# Altium footprint library V-Reg.PcbLib: 2 footprints
Each footprint in its own frame and in the unit in brackets; x right, y up, seen from the top. Pads: shape width x height; smd on the part's side, far side on the other; paste and mask are expansions set on the pad; w line width, h text height; cw(c..) or ccw(c..) is an arc to the next point about the centre after c.
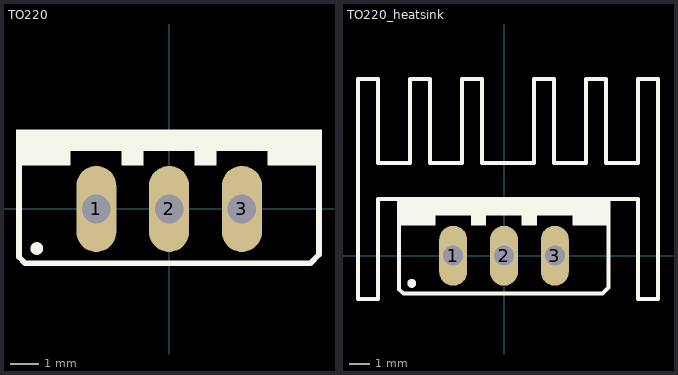
[diagram p0: the footprints below, top view; thin cyan lines are the x and y axes]

## TO220 [mm] "FM, 3-Leads, Body 10.2x4.7mm, Pitch 2.54mm"
height 18.95
pads (3):
  oval 1.4x3 hole 1: 1(-2.54,0) 2(0,0) 3(2.54,0)
Top Overlay:
  circle w0.254: c-4.617,-1.381 r0.094
  region: -3.433,1.508 -3.433,2.778 -5.338,2.778 -5.338,1.508
  region: -1.655,2.016 -1.655,2.778 -3.433,2.778 -3.433,2.016
  region: -0.893,2.778 -1.655,2.778 -1.655,1.508 -0.893,1.508
  region: 0.885,2.016 0.885,2.778 -0.893,2.778 -0.893,2.016
  region: 1.647,2.778 0.885,2.778 0.885,1.508 1.647,1.508
  region: 3.425,2.016 3.425,2.778 1.647,2.778 1.647,2.016
  region: 5.33,1.508 5.33,2.778 3.425,2.778 3.425,1.508
  lines w0.2: -5.238,2.642 -5.238,-1.681 -5.024,-1.895 -4.192,-1.895 ; -4.331,-1.895 3.97,-1.895 4.928,-1.895 5.23,-1.593 5.23,2.57
3D body "TO220.stp": height 19.89, standoff -10.36, extent -5.26,-1.5 5.26,3.17

## TO220_heatsink [mm] "FM, 3-Leads, Body 10.2x4.7mm, Pitch 2.54mm"
height 18.95
pads (3):
  oval 1.4x3 hole 1: 1(-2.54,0) 2(0,0) 3(2.54,0)
Top Overlay:
  circle w0.254: c-4.617,-1.381 r0.094
  region: -3.433,1.508 -3.433,2.778 -5.338,2.778 -5.338,1.508
  region: -1.655,2.016 -1.655,2.778 -3.433,2.778 -3.433,2.016
  region: -0.893,2.778 -1.655,2.778 -1.655,1.508 -0.893,1.508
  region: 0.885,2.016 0.885,2.778 -0.893,2.778 -0.893,2.016
  region: 1.647,2.778 0.885,2.778 0.885,1.508 1.647,1.508
  region: 3.425,2.016 3.425,2.778 1.647,2.778 1.647,2.016
  region: 5.33,1.508 5.33,2.778 3.425,2.778 3.425,1.508
  lines w0.2: -6.3,2.837 -6.3,-2.163 -7.3,-2.163 -7.3,8.837 -6.3,8.837 -6.3,4.637 -4.7,4.637 -4.7,8.837 -3.7,8.837 -3.7,4.637 -2.1,4.637 -2.1,8.837 -1.1,8.837 -1.1,4.637 ; -6.3,2.836 6.7,2.836 ; -5.238,2.805 -5.238,-1.681 -5.024,-1.895 -4.192,-1.895 ; -4.331,-1.895 3.97,-1.895 4.928,-1.895 5.23,-1.593 5.23,2.805 ; -1.101,4.637 1.499,4.637 1.5,8.837 2.5,8.837 2.5,4.637 4.1,4.637 4.1,8.837 5.1,8.837 5.1,4.637 6.7,4.637 6.7,8.837 7.7,8.837 7.7,-2.163 6.7,-2.163 6.7,2.837
3D body "TO220 with Heatsink.STEP": height 25, standoff -7.62, extent -7.364,-2.15 7.636,8.851